# Altium footprint library MELF - Resistor.PcbLib: 4 footprints
Each footprint in its own frame and in the unit in brackets; x right, y up, seen from the top. Pads: shape width x height; smd on the part's side, far side on the other; paste and mask are expansions set on the pad; w line width, h text height; cw(c..) or ccw(c..) is an arc to the next point about the centre after c.
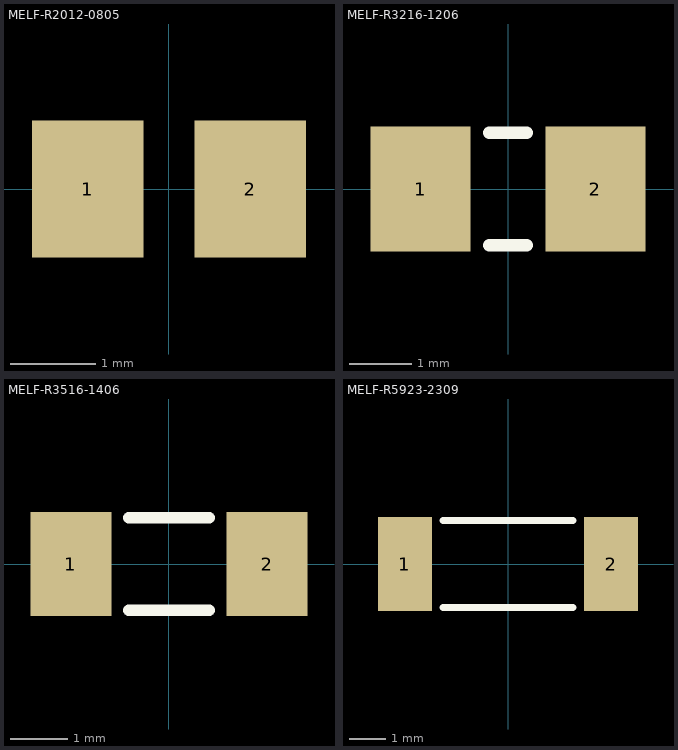
[diagram p0: the footprints below, top view; thin cyan lines are the x and y axes]

## MELF-R2012-0805 [mm] "Metal Electrode Face (MELF) Resistor; Body 2 x 1.4 mm (LxDia)"
height 1.45
pads (2):
  rect 1.3x1.6 smd: 1(-0.95,0) 2(0.95,0)

## MELF-R3216-1206 [mm] "Metal Electrode Face (MELF) Resistor; Body 3.2 x 1.8 mm (LxDia)"
height 1.85
pads (2):
  rect 1.6x2 smd: 1(-1.4,0) 2(1.4,0)
Top Overlay:
  lines w0.2: -0.3,-0.9 0.3,-0.9 ; -0.3,0.9 0.3,0.9

## MELF-R3516-1406 [mm] "Metal Electrode Face (MELF) Resistor; Body 3.5 x 1.6 mm (LxDia)"
height 1.71
pads (2):
  rect 1.4x1.8 smd: 1(-1.7,0) 2(1.7,0)
Top Overlay:
  lines w0.2: -0.7,-0.8 0.7,-0.8 ; -0.7,0.8 0.7,0.8

## MELF-R5923-2309 [mm] "Metal Electrode Face (MELF) Resistor; Body 5.9 x 2.5 mm (LxDia)"
height 2.5
pads (2):
  rect 1.5x2.6 smd: 1(-2.85,0) 2(2.85,0)
Top Overlay:
  lines w0.2: -1.8,-1.2 1.8,-1.2 ; -1.8,1.2 1.8,1.2